# Altium footprint library 3 pin.PcbLib: 1 footprints
Each footprint in its own frame and in the unit in brackets; x right, y up, seen from the top. Pads: shape width x height; smd on the part's side, far side on the other; paste and mask are expansions set on the pad; w line width, h text height; cw(c..) or ccw(c..) is an arc to the next point about the centre after c.
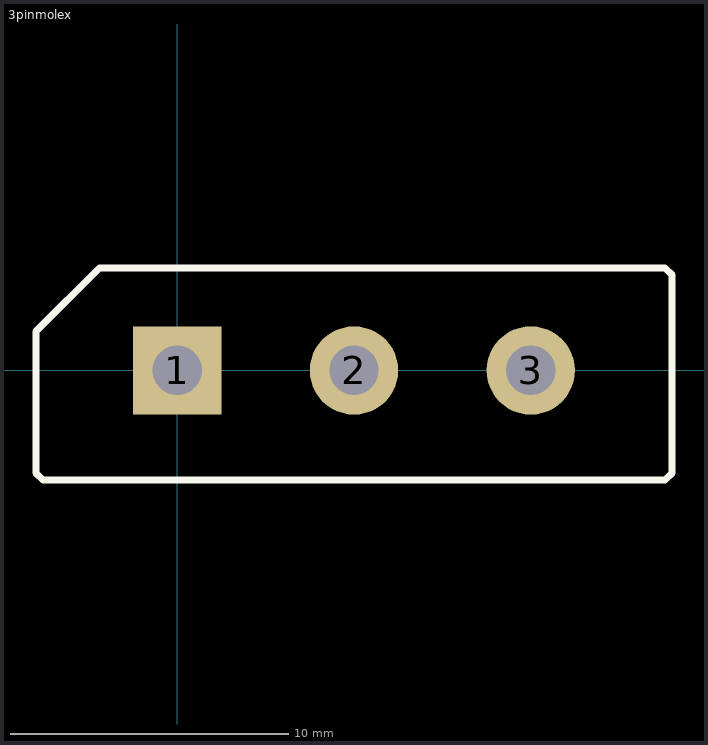
[diagram p0: the footprint, top view; thin cyan lines are the x and y axes]

## 3pinmolex [mil]
pads (3):
  rect 125x125 hole 70: 1(0,0)
  round 125 hole 70: 2(250,0) 3(500,0)
Top Overlay:
  lines w10: -200,-145 -200,55 -110,145 690,145 700,135 700,-145 690,-155 -190,-155 -200,-145